# Altium schematic symbol library acf_sch.SchLib: 59 symbols
Pins are listed as number, name and electrical type; pins without a type are passive.

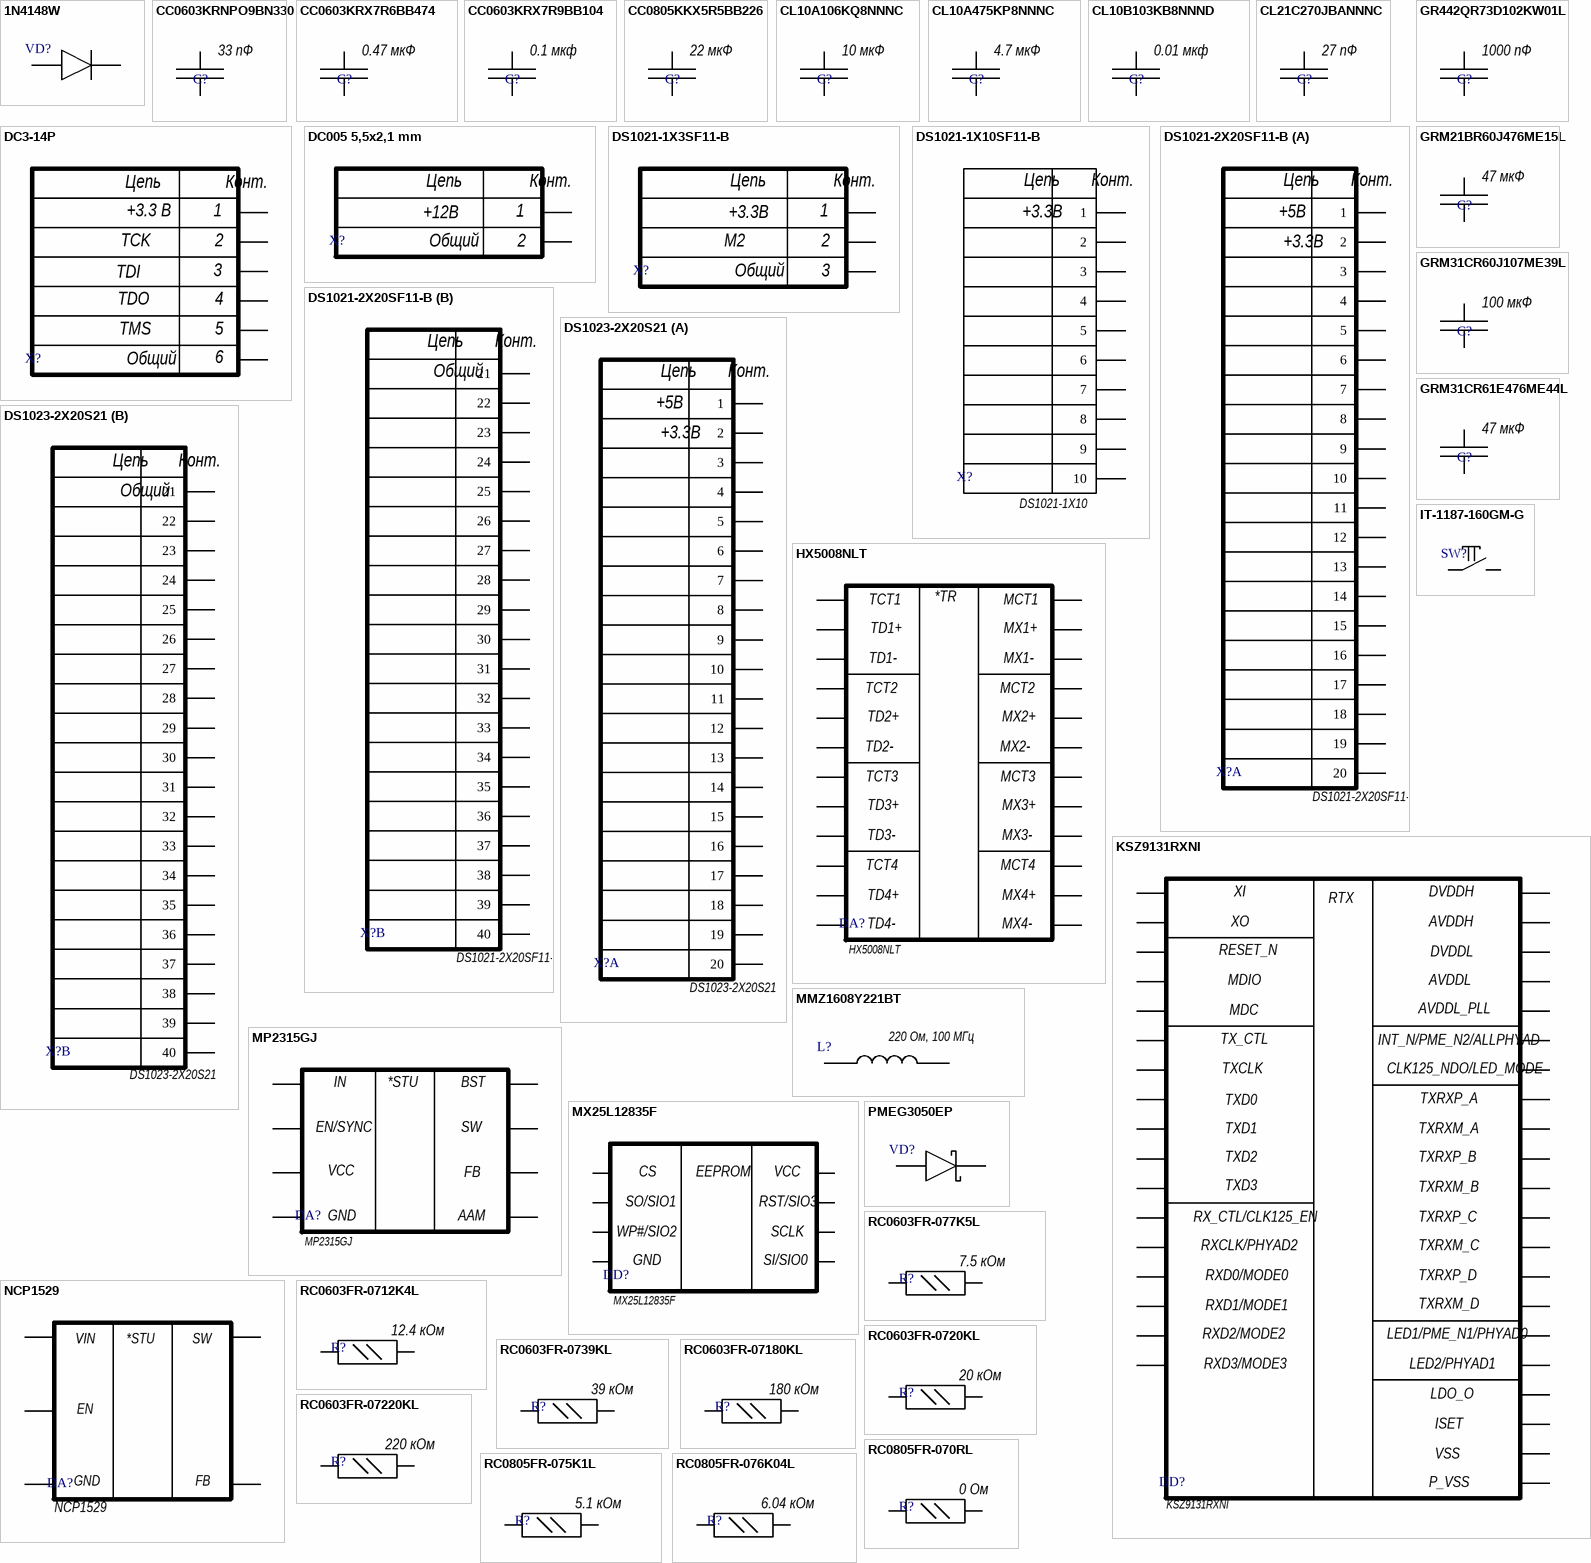
[diagram p0: symbols 1N4148W to RC0805FR-076K04L]

## 1N4148W
designator VD?, comment diode  (value not drawn)
Компания: Oasis tech.
footprint FP-SOD-123-MFG
pins: 1 K, 2 A

## CC0603KRNPO9BN330
designator C?, comment 33 пФ
Компания: Yageo; Напряжение: 50 В; Диэлектрик: X7R; Значение: 33 пФ
footprint CC0603-DA-IPC_B (0603 CAP)
pins: 1, 2

## CC0603KRX7R6BB474
designator C?, comment 0.47 мкф
Компания: Yageo; Напряжение: 10 В; Диэлектрик: X7R; Значение: 0.47 мкФ
footprint CC0603-DA-IPC_B (0603 CAP)
pins: 1, 2

## CC0603KRX7R9BB104
designator C?, comment Значение: 0.1 мкф  (hidden comment: 0.1 мкф (0603))
Компания: Yageo; Напряжение: 50 В; Диэлектрик: X7R
footprint CC0603-DA-IPC_B (0603 CAP)
pins: 1, 2

## CC0805KKX5R5BB226
designator C?, comment 22 мкФ
22 мкФ 0805 X5R; Компания: Yageo; Напряжение: 6.3 В; Диэлектрик: X7R; Значение: 22 мкФ
footprint 0805_MED_DENS_MURATA (Chip Capacitor, 2-Leads, Body 2.00x1.25mm, IPC Medium Density)
pins: 1, 2

## CL10A106KQ8NNNC
designator C?, comment 10 мкф
10 мкф 0603 X5R; Компания: Samsung; Напряжение: 6.3 В; Значение: 10 мкФ; Диэлектрик: X5R
footprint CC0603-DA-IPC_B (0603 CAP)
pins: 1, 2

## CL10A475KP8NNNC
designator C?, comment 4.7 мкф
Компания: Samsung; Напряжение: 10 В; Диэлектрик: X5R; Значение: 4.7 мкФ
footprint CC0603-DA-IPC_B (0603 CAP)
pins: 1, 2

## CL10B103KB8NNND
designator C?, comment 0.01 мкф
0.01 мкф 0603 X5R; Компания: Samsung; Напряжение: 50 В; Значение: 0.01 мкф; Диэлектрик: X5R
footprint CC0603-DA-IPC_B (0603 CAP)
pins: 1, 2

## CL21C270JBANNNC
designator C?, comment 27 пф
Компания: Samsung; Напряжение: 50 В; Диэлектрик: X5R; Значение: 27 пФ
footprint 0805_MED_DENS_MURATA (Chip Capacitor, 2-Leads, Body 2.00x1.25mm, IPC Medium Density)
pins: 1, 2

## DC3-14P
designator X?, comment 14 pin header (jtag)  (value not drawn)
Компания: Китай; Тип: Разъем; Категория: Разъем
footprint SAMTEC-TST-107-01 (14PIN)
pins: 2 VREF (VCCO), 3,5,7,9,11 GND, 4 TMS, 6 TCK, 8 TDO, 10 TDI
text: Цепь; Конт.; +3.3 В; 1; 3; 5; Общий

## DC005 5,5x2,1 mm
designator X?, comment DC Power Jack  (value not drawn)
Компания: Китай; Тип: Разъем; Категория: Разъем
footprint DC POWER JACK (5.5x2.5mm)
pins: 1,2 GND, 3 VCC
text: Цепь; Конт.; 1; +12В; Общий; 2

## DS1021-1X3SF11-B
designator X?, comment 3 pin header (BOOT)  (value not drawn)
Компания: Connfly; Тип: Разъем; Категория: Разъем
footprint PLS-3 (DS1021-1x3) (3-Pin header)
pins: 1 VCC, 2 M[2], 3 GND
text: Цепь; Конт.; +3.3В; M2; Общий

## DS1021-1X10SF11-B
designator X?, comment 10 pin header  (value not drawn)
Компания: Connfly; Тип: Разъем; Категория: Разъем
footprint 10 Pin Header
pins: 1, 2, 3, 4, 5, 6, 7, 8, 9, 10
text: Цепь; Конт.; +3.3В; DS1021-1X10

## DS1021-2X20SF11-B
designator X?, comment 40 pin header  (value not drawn)
Компания: Connfly; Тип: Разъем
footprint 40 PIN HEADER
part A pins: 1, 2, 3, 4, 5, 6, 7, 8, 9, 10, 11, 12, 13, 14, 15, 16, 17, 18, 19, 20
part B pins: 21, 22, 23, 24, 25, 26, 27, 28, 29, 30, 31, 32, 33, 34, 35, 36, 37, 38, 39, 40
part A text: Цепь; Конт.; +5В; +3.3В
part B text: Цепь; Конт.; Общий

## DS1023-2X20S21
designator X?, comment 40 pin socket  (value not drawn)
Компания: Connfly; Тип: Разъем
footprint 40 PIN SOCKET (40 PIN HEADER)
part A pins: 1, 2, 3, 4, 5, 6, 7, 8, 9, 10, 11, 12, 13, 14, 15, 16, 17, 18, 19, 20
part B pins: 21, 22, 23, 24, 25, 26, 27, 28, 29, 30, 31, 32, 33, 34, 35, 36, 37, 38, 39, 40
part A text: Цепь; Конт.; +5В; +3.3В
part B text: Цепь; Конт.; Общий

## GR442QR73D102KW01L
designator C?, comment 1000 пФ
Компания: Murata; Напряжение: 2 кВ; Диэлектрик: X5R; Значение: 1000 пФ
footprint CAP 1808 (Chip Capacitor, 2-Leads, Body 5.1x2.2mm, IPC Low Density)
pins: 1, 2

## GRM21BR60J476ME15L
designator C?, comment 47 мкф
Компания: Murata; Напряжение: 6.3 В; Диэлектрик: X5R; Значение: 47 мкФ
footprint 0805_MED_DENS_MURATA (Chip Capacitor, 2-Leads, Body 2.00x1.25mm, IPC Medium Density)
pins: 1, 2

## GRM31CR60J107ME39L
designator C?, comment 100 мкФ
Компания: Murata; Напряжение: 6.3 В; Диэлектрик: X5R; Значение: 100 мкФ
footprint 1206_IPC_A_samsung
pins: 1, 2

## GRM31CR61E476ME44L
designator C?, comment 47 мкф
Компания: Murata; Напряжение: 16 В; Диэлектрик: X5R; Значение: 47 мкФ
footprint 1206_Med_Dens_murata
pins: 1, 2

## HX5008NLT
designator DA?, comment Magnetics (ethernet)  (value not drawn)
Компания: Pulse Electronics; Тип: Трансформаторная сборка; Категория: Микросхема аналоговая
footprint FP-HX5008NL-MFG
pins: 1, 2, 3, 4, 5, 6, 7, 8, 9, 10, 11, 12, 13, 14, 15, 16, 17, 18, 19, 20, 21, 22, 23, 24
text: TCT1; *TR; MCT1; TD1+; MX1+; TD1-; MX1-; TCT2; MCT2; TD2+; MX2+; TD2-; MX2-; TCT3; MCT3; TD3+; MX3+; TD3-; MX3-; TCT4; MCT4; TD4+; MX4+; TD4-; MX4-

## IT-1187-160GM-G
designator SW?, comment Кнопка  (value not drawn)
Компания: Switronic; Категория: Кнопка тактовая
footprint BUTTON
pins: 1, 2

## KSZ9131RXNI
designator DD?, comment PHY ETH  (value not drawn)
Компания: TI; Тип: Приёмопередатчик физического уровня Ethernet; Категория: Микросхема цифровая
footprint FP-QFN77-48LD-PL-1-MFG
pins: 1, 12 AVDDH, 2 TXRXP_A, 3 TXRXM_A, 4,9 AVDDL, 5 TXRXP_B, 6 TXRXM_B, 7 TXRXP_C, 8 TXRXM_B, 10 TXRXP_D, 11 TXRXM_D, 15 LED2, 16,34,40 DVDDH, 17 LED1, 18,23,26,30,39 DVDDL, 19 TXD0, 20 TXD1, 21 TXD2, 22 TXD3, 24 TXCLK, 25 TXCTL, 27 RXD3, 28 RXD2, 29 VSS, 31 RXD1, 32 RXD0, 33 RX_CTL, 35 RXCLK, 36 MDC, 37 MDIO, 38 INT_N, 41 CLK125_NDO, 42 RESET_N, 43 LDO, 44 AVDDL_PLL, 45 XO, 46 XI, 48 ISET, 49 P_VSS
text: RTX; TX_CTL; INT_N/PME_N2/ALLPHYAD; CLK125_NDO/LED_MODE; RX_CTL/CLK125_EN; RXCLK/PHYAD2; TXRXM_C; RXD0/MODE0; RXD1/MODE1; RXD2/MODE2; LED1/PME_N1/PHYAD0; RXD3/MODE3; LED2/PHYAD1; LDO_O

## MMZ1608Y221BT
designator L?, comment Значение: 220 Ом, 100 МГц  (hidden comment: Ферритовый фильтр 220 Ом 100 МГц)
Тип: Фильтр ферритовый; Компания: TDK
footprint MMZ1608-0_8-MFG (Ферритовый фильтр 0603)
pins: 1, 2

## MP2315GJ
designator DA?, comment DC-DC  (value not drawn)
Компания: Monolithic; Тип: Импульсный регулятор; Категория: Микросхема аналоговая
footprint TSTO23-8
pins: 1 AAM, 2 IN, 3 SW, 4 GND, 5 BST, 6 EN/SYNC, 7 VCC, 8 FB
text: *STU

## MX25L12835F
designator DD?, comment QSPI Flash  (value not drawn)
Тип: Флеш-память; Категория: Микросхема цифровая; Компания: Macronix
footprint MX25L12835FM2I-10G (SOP, 8-Leads, Body 5.4x5.3mm, Pitch 1.27mm, IPC High Density)
pins: 1, 2, 3, 4, 5, 6, 7, 8
text: CS; EEPROM; VCC; SO/SIO1; RST/SIO3; WP#/SIO2; SCLK; GND; SI/SIO0

## NCP1529
designator DA?, comment DC-DC  (value not drawn)
Компания: ONSemi; Тип: Импульсный регулятор; Категория: Микросхема аналоговая
footprint TSOT23-5 (TSOP5)
pins: 1 EN, 2 GND, 3 SW, 4 VIN, 5 FB
text: *STU

## PMEG3050EP
designator VD?, comment Schottky diode, 5A, 30V (360 mV)  (value not drawn)
Компания: Nexperia; Тип: Диод Шоттки
footprint SOD128-MFG (schottky diode)
pins: 1 C, 2 A

## RC0603FR-077K5L
designator R?, comment 7.5 кОм
Компания: Yageo; Точность: 5%; Мощность: 0.125 Вт; Значение: 7.5 кОм
footprint RESC1608X55X25(0603 res) (Chip Resistor, 2-Leads, Body 1.70x0.90mm, IPC Medium Density)
pins: 1, 2

## RC0603FR-0712K4L
designator R?, comment 12.4 кОм
Компания: Yageo; Точность: 5%; Мощность: 0.125 Вт; Значение: 12.4 кОм
footprint RESC1608X55X25(0603 res) (Chip Resistor, 2-Leads, Body 1.70x0.90mm, IPC Medium Density)
pins: 1, 2

## RC0603FR-0720KL
designator R?, comment 20 кОм
Компания: Yageo; Точность: 5%; Мощность: 0.125 Вт; Значение: 20 кОм
footprint RESC1608X55X25(0603 res) (Chip Resistor, 2-Leads, Body 1.70x0.90mm, IPC Medium Density)
pins: 1, 2

## RC0603FR-0739KL
designator R?, comment 39 кОм
Компания: Yageo; Точность: 1%; Мощность: 0.125 Вт; Значение: 39 кОм
footprint RESC1608X55X25(0603 res) (Chip Resistor, 2-Leads, Body 1.70x0.90mm, IPC Medium Density)
pins: 1, 2

## RC0603FR-07180KL
designator R?, comment 180 кОм
Компания: Yageo; Точность: 1%; Мощность: 0.125 Вт; Значение: 180 кОм
footprint RESC1608X55X25(0603 res) (Chip Resistor, 2-Leads, Body 1.70x0.90mm, IPC Medium Density)
pins: 1, 2

## RC0603FR-07220KL
designator R?, comment 220 кОм
Компания: Yageo; Точность: 5%; Мощность: 0.125 Вт; Значение: 220 кОм
footprint RESC1608X55X25(0603 res) (Chip Resistor, 2-Leads, Body 1.70x0.90mm, IPC Medium Density)
pins: 1, 2

## RC0805FR-070RL
designator R?, comment 0 Ом
Компания: Yageo; Точность: 5%; Мощность: 0.125 Вт; Значение: 0 Ом
footprint RESC2012X60N (0805)
pins: 1, 2

## RC0805FR-075K1L
designator R?, comment 5.1 кОм
5.1 кОм 1%; Компания: Yageo; Точность: 5%; Мощность: 0.125 Вт; Значение: 5.1 кОм
footprint RESC2012X60N (0805)
pins: 1, 2

## RC0805FR-076K04L
designator R?, comment 6.04 кОм
Компания: Bourns; Точность: 1%; Мощность: 0.125 Вт; Значение: 6.04 кОм
footprint RESC2012X60N (0805)
pins: 1, 2

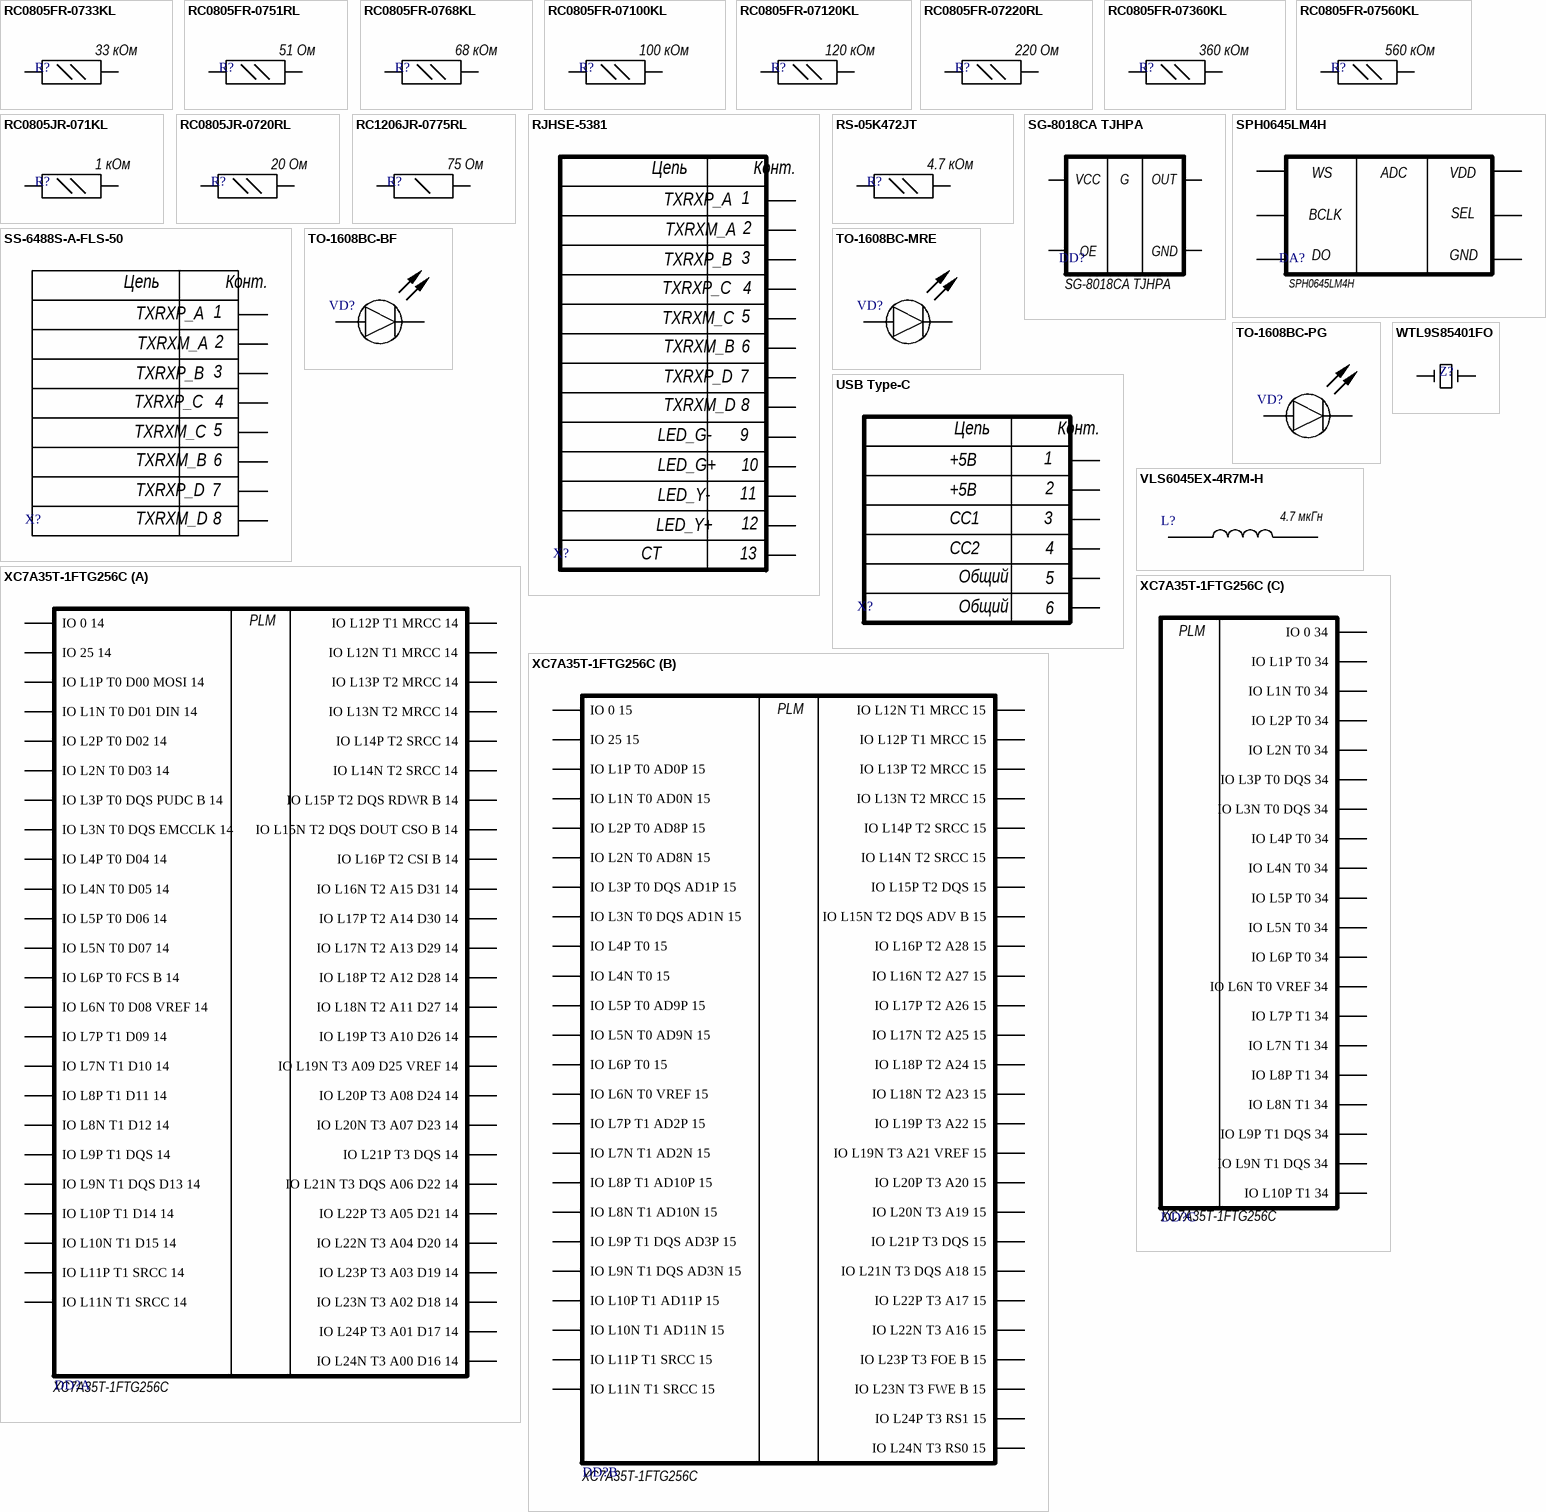
[diagram p1: symbols RC0805FR-0733KL to XC7A35T-1FTG256C]

## RC0805FR-0733KL
designator R?, comment 33 кОм
Компания: Yageo; Точность: 5%; Мощность: 0.125 Вт; Значение: 33 кОм
footprint RESC2012X60N (0805)
pins: 1, 2

## RC0805FR-0751RL
designator R?, comment 51 Ом
Компания: Yageo; Точность: 5%; Мощность: 0.125 Вт; Значение: 51 Ом
footprint RESC2012X60N (0805)
pins: 1, 2

## RC0805FR-0768KL
designator R?, comment 68 кОм
Компания: Yageo; Точность: 5%; Мощность: 0.125 Вт; Значение: 68 кОм
footprint RESC2012X60N (0805)
pins: 1, 2

## RC0805FR-07100KL
designator R?, comment 100 кОм
Компания: Yageo; Точность: 5%; Мощность: 0.125 Вт; Значение: 100 кОм
footprint RESC2012X60N (0805)
pins: 1, 2

## RC0805FR-07120KL
designator R?, comment 120 кОм
Компания: Yageo; Точность: 1%; Мощность: 0.125 Вт; Значение: 120 кОм
footprint RESC2012X60N (0805)
pins: 1, 2

## RC0805FR-07220RL
designator R?, comment 220 Ом
Компания: Yageo; Точность: 5%; Мощность: 0.125 Вт; Значение: 220 Ом
footprint RESC2012X60N (0805)
pins: 1, 2

## RC0805FR-07360KL
designator R?, comment 360 кОм
Компания: Yageo; Точность: 1%; Мощность: 0.125 Вт; Значение: 360 кОм
footprint RESC2012X60N (0805)
pins: 1, 2

## RC0805FR-07560KL
designator R?, comment 560 кОм
Компания: Yageo; Точность: 1%; Мощность: 0.125 Вт; Значение: 560 кОм
footprint RESC2012X60N (0805)
pins: 1, 2

## RC0805JR-071KL
designator R?, comment 1 кОм
Компания: Yageo; Точность: 5%; Мощность: 0.125 Вт; Значение: 1 кОм
footprint RESC2012X60N (0805)
pins: 1, 2

## RC0805JR-0720RL
designator R?, comment 20 Ом
Компания: Yageo; Точность: 5%; Мощность: 0.125 Вт; Значение: 20 Ом
footprint RESC2012X60N (0805)
pins: 1, 2

## RC1206JR-0775RL
designator R?, comment 75 Ом
Компания: Yageo; Точность: 5%; Мощность: 0.25 Вт; Значение: 75 Ом
footprint RC1206-IPC_A
pins: 1, 2

## RJHSE-5381
designator X?, comment ethernet connector  (value not drawn)
Компания: Amphenol; Тип: Разъем; Категория: Разъем
footprint RJHSE-5381_ETHERNET (THD, 12-Leads, Body 16.51x15.75mm)
pins: 1, 2, 3, 4, 5, 6, 7, 8, 9, 10, 11, 12, S1,S2 S1
text: Цепь; Конт.; TXRXP_A; TXRXM_A; TXRXP_B; TXRXP_C; TXRXM_C; TXRXM_B; TXRXP_D; TXRXM_D; LED_G-; LED_G+; LED_Y-; LED_Y+; CT; 13

## RS-05K472JT
designator R?, comment 4.7 кОм
Компания: Yageo; Точность: 5%; Мощность: 0.125 Вт; Значение: 4.7 кОм
footprint RESC2012X60N (0805)
pins: 1, 2

## SG-8018CA TJHPA
designator DD?, comment Clock gen 50 MHz  (value not drawn)
Тип: Кварцевый генератор; Категория: Микросхема цифровая; Компания: Epson
footprint OSC_SG-8018CA_50.2600M-TJHPA0
pins: 1 OE, 2 GND, 3 OUT, 4 VCC
text: G

## SPH0645LM4H
designator DA?, comment Microphone  (value not drawn)
Компания: Knowles; Тип: Цифровой микрофон; Категория: Микросхема цифровая
footprint MIC_SPH0645LM4H-B
pins: 1 WS, 2 SEL, 3 GND, 4 BCLK, 5 VDD, 6 DO
text: ADC

## SS-6488S-A-FLS-50
designator X?, comment ethernet connector  (value not drawn)
Компания: Amphenol; Тип: Разъем
footprint BEL_SS-6488S-A-FLS-50
pins: 1, 2, 3, 4, 5, 6, 7, 8
text: Цепь; Конт.; TXRXP_A; TXRXM_A; TXRXP_B; TXRXP_C; TXRXM_C; TXRXM_B; TXRXP_D; TXRXM_D

## TO-1608BC-BF
designator VD?, comment blue led  (value not drawn)
Компания: Oasis tech.; Тип: Светодиод
footprint KING-0603LED_GREEN_V (SMT LED, 2-Leads, Body 1.6x0.8mm (0603-Size))
pins: 1 K, 2 A

## TO-1608BC-MRE
designator VD?, comment red led  (value not drawn)
Компания: Oasis tech.; Тип: Светодиод
footprint KING-0603LED_GREEN_V (SMT LED, 2-Leads, Body 1.6x0.8mm (0603-Size))
pins: 1 K, 2 A

## TO-1608BC-PG
designator VD?, comment green led  (value not drawn)
Компания: Oasis tech.; Тип: Светодиод
footprint KING-0603LED_GREEN_V (SMT LED, 2-Leads, Body 1.6x0.8mm (0603-Size))
pins: 1 K, 2 A

## USB Type-C
designator X?  (value not drawn)
Компания: Китай; Тип: Разъем; Категория: Разъем
footprint USB TYPE-C 6 pins
pins: A5 CC1, A9 VBUS, A12 GND, B5 CC2, B9 VBUS, B12 GND
text: Цепь; Конт.; +5В; 1; 2; СС1; 3; СС2; 4; Общий; 5; 6

## VLS6045EX-4R7M-H
designator L?, comment 4.7 мкГн
Компания: TDK; Значение: 4.7 мкГн
footprint IND_VLS6045EX-4R7M-H
pins: 1, 2

## WTL9S85401FO
designator Z?, comment Crystal resonator 25 MHz  (value not drawn)
Тип: Кварцевый резонатор; Компания: WTL; Категория: Микросхема цифровая; Значение: 25 МГц
footprint HC49/S (CRYSTAL) (THD, 2-Leads, Body 11.35x4.65mm)
pins: 1, 2

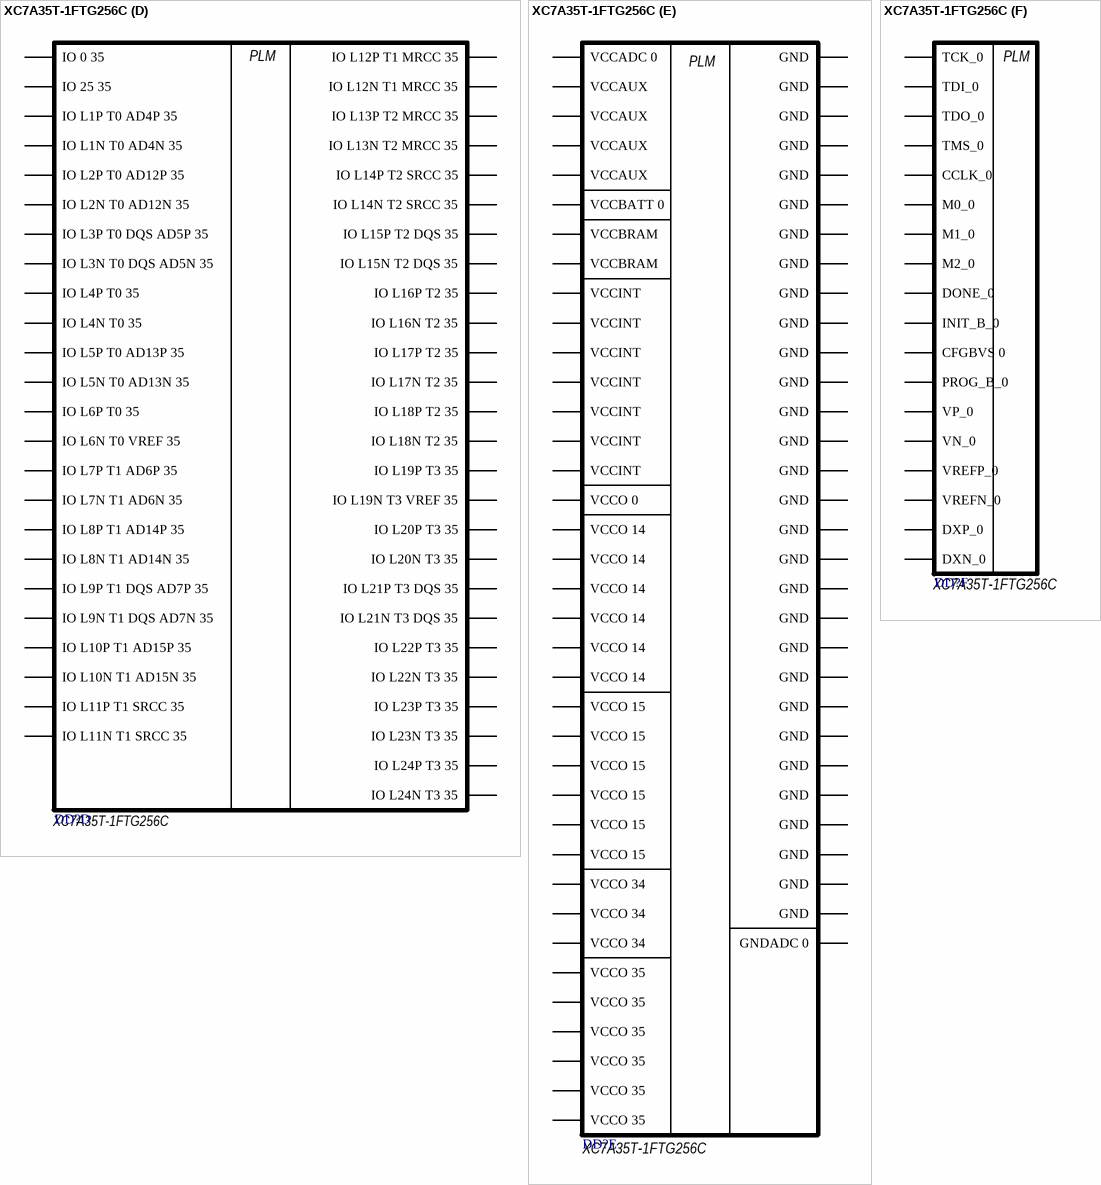
[diagram p2: symbol XC7A35T-1FTG256C]

## XC7A35T-1FTG256C
designator DD?, comment FPGA  (value not drawn)
IC FPGA 170 I/O 256FTBGA; Компания: Xilinx; Тип: ПЛИС; Категория: Микросхема цифровая
footprint FP-XC7A35T-1FTG256C-IPC_C
footprint FP-XC7A35T-1FTG256C-MFG
footprint FP-XC7A35T-1FTG256C-IPC_B
footprint FP-XC7A35T-1FTG256C-IPC_A
part A pins: J13 IO L1P T0 D00 MOSI 14, J14 IO L1N T0 D01 DIN 14, K12 IO 0 14, K13 IO L5P T0 D06 14, K15 IO L2P T0 D02 14, K16 IO L2N T0 D03 14, L12 IO L6P T0 FCS B 14, L13 IO L5N T0 D07 14, L14 IO L4P T0 D04 14, L15 IO L3P T0 DQS PUDC B 14, M6 IO L19P T3 A10 D26 14, M12 IO L6N T0 D08 VREF 14, M14 IO L4N T0 D05 14, M15 IO L3N T0 DQS EMCCLK 14, M16 IO L7P T1 D09 14, N6 IO L19N T3 A09 D25 VREF 14, N9 IO L18P T2 A12 D28 14, N11 IO L13P T2 MRCC 14, N12 IO L13N T2 MRCC 14, N13 IO L11P T1 SRCC 14, N14 IO L12P T1 MRCC 14, N16 IO L7N T1 D10 14, P6 IO 25 14, P8 IO L20P T3 A08 D24 14, P9 IO L18N T2 A11 D27 14, P10 IO L14P T2 SRCC 14, P11 IO L14N T2 SRCC 14, P13 IO L11N T1 SRCC 14, P14 IO L12N T1 MRCC 14, P15 IO L8P T1 D11 14, P16 IO L8N T1 D12 14, R5 IO L23P T3 A03 D19 14, R6 IO L24P T3 A01 D17 14, R7 IO L24N T3 A00 D16 14, R8 IO L20N T3 A07 D23 14, R10 IO L17P T2 A14 D30 14, R11 IO L17N T2 A13 D29 14, R12 IO L15P T2 DQS RDWR B 14, R13 IO L16P T2 CSI B 14, R15 IO L9P T1 DQS 14, R16 IO L9N T1 DQS D13 14, T5 IO L23N T3 A02 D18 14, T7 IO L21P T3 DQS 14, T8 IO L21N T3 DQS A06 D22 14, T9 IO L22P T3 A05 D21 14, T10 IO L22N T3 A04 D20 14, T12 IO L15N T2 DQS DOUT CSO B 14, T13 IO L16N T2 A15 D31 14, T14 IO L10P T1 D14 14, T15 IO L10N T1 D15 14
part B pins: A8 IO L2P T0 AD8P 15, A9 IO L2N T0 AD8N 15, A10 IO L3N T0 DQS AD1N 15, A12 IO L5N T0 AD9N 15, A13 IO L7P T1 AD2P 15, A14 IO L7N T1 AD2N 15, A15 IO L9N T1 DQS AD3N 15, B9 IO L3P T0 DQS AD1P 15, B10 IO L4P T0 15, B11 IO L4N T0 15, B12 IO L5P T0 AD9P 15, B14 IO L8N T1 AD10N 15, B15 IO L9P T1 DQS AD3P 15, B16 IO L10N T1 AD11N 15, C8 IO L1P T0 AD0P 15, C9 IO L1N T0 AD0N 15, C11 IO L11P T1 SRCC 15, C12 IO L11N T1 SRCC 15, C13 IO L12N T1 MRCC 15, C14 IO L8P T1 AD10P 15, C16 IO L10P T1 AD11P 15, D8 IO L6P T0 15, D9 IO L6N T0 VREF 15, D10 IO 0 15, D11 IO L14N T2 SRCC 15, D13 IO L12P T1 MRCC 15, D14 IO L15P T2 DQS 15, D15 IO L15N T2 DQS ADV B 15, D16 IO L17N T2 A25 15, E11 IO L14P T2 SRCC 15, E12 IO L13P T2 MRCC 15, E13 IO L13N T2 MRCC 15, E15 IO L18N T2 A23 15, E16 IO L17P T2 A26 15, F12 IO L16P T2 A28 15, F13 IO L16N T2 A27 15, F14 IO L21N T3 DQS A18 15, F15 IO L18P T2 A24 15, G11 IO 25 15, G12 IO L19N T3 A21 VREF 15, G14 IO L21P T3 DQS 15, G15 IO L24N T3 RS0 15, G16 IO L22N T3 A16 15, H11 IO L19P T3 A22 15, H12 IO L20P T3 A20 15, H13 IO L20N T3 A19 15, H14 IO L24P T3 RS1 15, H16 IO L22P T3 A17 15, J15 IO L23P T3 FOE B 15, J16 IO L23N T3 FWE B 15
part C pins: L4 IO L1P T0 34, L5 IO 0 34, M1 IO L2N T0 34, M2 IO L2P T0 34, M4 IO L1N T0 34, M5 IO L6P T0 34, N1 IO L4P T0 34, N2 IO L3N T0 DQS 34, N3 IO L3P T0 DQS 34, N4 IO L6N T0 VREF 34, P1 IO L4N T0 34, P3 IO L5N T0 34, P4 IO L5P T0 34, P5 IO L10P T1 34, R1 IO L7N T1 34, R2 IO L7P T1 34, R3 IO L8P T1 34, T2 IO L8N T1 34, T3 IO L9N T1 DQS 34, T4 IO L9P T1 DQS 34
part D pins: A2 IO L8N T1 AD14N 35, A3 IO L4N T0 35, A4 IO L3N T0 DQS AD5N 35, A5 IO L3P T0 DQS AD5P 35, A7 IO L1N T0 AD4N 35, B1 IO L9N T1 DQS AD7N 35, B2 IO L8P T1 AD14P 35, B4 IO L4P T0 35, B5 IO L2N T0 AD12N 35, B6 IO L2P T0 AD12P 35, B7 IO L1P T0 AD4P 35, C1 IO L9P T1 DQS AD7P 35, C2 IO L7N T1 AD6N 35, C3 IO L7P T1 AD6P 35, C4 IO L12N T1 MRCC 35, C6 IO L5N T0 AD13N 35, C7 IO L5P T0 AD13P 35, D1 IO L10N T1 AD15N 35, D3 IO L11N T1 SRCC 35, D4 IO L12P T1 MRCC 35, D5 IO L6N T0 VREF 35, D6 IO L6P T0 35, E1 IO L15N T2 DQS 35, E2 IO L10P T1 AD15P 35, E3 IO L11P T1 SRCC 35, E5 IO L13N T2 MRCC 35, E6 IO 0 35, F2 IO L15P T2 DQS 35, F3 IO L14N T2 SRCC 35, F4 IO L14P T2 SRCC 35, F5 IO L13P T2 MRCC 35, G1 IO L17N T2 35, G2 IO L17P T2 35, G4 IO L16N T2 35, G5 IO L16P T2 35, H1 IO L20N T3 35, H2 IO L20P T3 35, H3 IO L21N T3 DQS 35, H4 IO L18N T2 35, H5 IO L18P T2 35, J1 IO L22N T3 35, J3 IO L21P T3 DQS 35, J4 IO L19N T3 VREF 35, J5 IO L19P T3 35, K1 IO L22P T3 35, K2 IO L24N T3 35, K3 IO L24P T3 35, K5 IO 25 35, L2 IO L23N T3 35, L3 IO L23P T3 35
part E pins: A1 GND (power), A6 VCCO 35 (power), A11 GND (power), A16 VCCO 15 (power), B3 VCCO 35 (power), B8 GND (power), B13 VCCO 15 (power), C5 GND (power), C10 VCCO 15 (power), C15 GND (power), D2 GND (power), D7 VCCO 35 (power), D12 GND (power), E4 VCCO 35 (power), E9 GND (power), E10 VCCBRAM (power), E14 VCCO 15 (power), F1 VCCO 35 (power), F6 GND (power), F7 VCCINT (power), F8 VCCBATT 0 (power), F9 VCCINT (power), F10 GND (power), F11 VCCBRAM (power), F16 GND (power), G3 GND (power), G6 VCCINT (power), G7 GNDADC 0 (power), G8 VCCADC 0 (power), G9 GND (power), G10 VCCAUX (power), G13 GND (power), H6 GND (power), H9 VCCINT (power), H15 VCCO 15 (power), J2 VCCO 35 (power), J6 VCCINT (power), J9 GND (power), J10 VCCAUX (power), J11 GND (power), J12 VCCO 15 (power), K4 GND (power), K6 GND (power), K9 VCCINT (power), K11 VCCAUX (power), K14 GND (power), L1 GND (power), L6 VCCO 0 (power), L8 VCCINT (power), L10 VCCAUX (power), L11 GND (power), L16 VCCO 14 (power), M3 VCCO 34 (power), M8 GND (power), M13 VCCO 14 (power), N5 GND (power), N10 VCCO 14 (power), N15 GND (power), P2 GND (power), P7 VCCO 14 (power), P12 GND (power), R4 VCCO 34 (power), R9 GND (power), R14 VCCO 14 (power), T1 VCCO 34 (power), T6 GND (power), T11 VCCO 14 (power), T16 GND (power)
part F pins: E7 CFGBVS 0, E8 CCLK_0, H7 VREFN_0, H8 VP_0, H10 DONE_0, J7 VN_0, J8 VREFP_0, K7 DXN_0, K8 DXP_0, K10 INIT_B_0, L7 TCK_0, L9 PROG_B_0, M7 TMS_0, M9 M0_0, M10 M1_0, M11 M2_0, N7 TDI_0, N8 TDO_0
part A text: PLM
part B text: PLM
part C text: PLM
part D text: PLM
part E text: PLM
part F text: PLM